# Altium schematic symbol library transformer_power.SchLib: 3 symbols
Pins are listed as number, name and electrical type; pins without a type are passive.

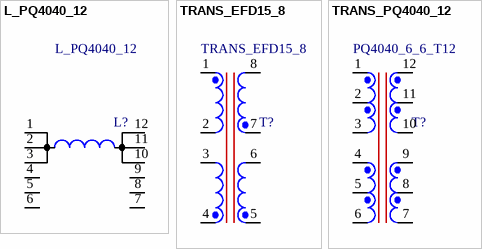
[diagram p0: symbols L_PQ4040_12 to TRANS_PQ4040_12]

## L_PQ4040_12
designator L?
Inductor, 6+6; MANF: -; MANF_P#: -; PARAM2: -; PARAM: -; PRICE: 6$; VALUE: L_PQ4040_12
footprint PQ4040_12 (TRANS, PQ40/40_6+6  40X40X28mm, pitch: 5.08mm)
pins: 1, 2, 3, 4, 5, 6, 7, 8, 9, 10, 11, 12

## TRANS_EFD15_8
designator T?
Transformer, EFD15 8L; MANF: -; MANF_P#: -; PARAM2: -; PARAM: -; PRICE: 6$; VALUE: TRANS_EFD15_8
footprint EFD15_8_SMD (TRANS, EFD15/8/5  15X8X5mm, pitch: 3.75mm)
pins: 1, 2, 3, 4, 5, 6, 7, 8

## TRANS_PQ4040_12
designator T?, comment PQ4040_6_6_T12
Transformer, 6+6; MANF: -; MANF_P#: -; PARAM2: -; PARAM: -; PRICE: 6$; VALUE: PQ4040_6_6_T12
footprint PQ4040_12 (TRANS, PQ40/40_6+6  40X40X28mm, pitch: 5.08mm)
pins: 1, 2, 3, 4, 5, 6, 7, 8, 9, 10, 11, 12